# Altium schematic symbol library Opamps.SchLib: 5 symbols
Pins are listed as number, name and electrical type; pins without a type are passive.

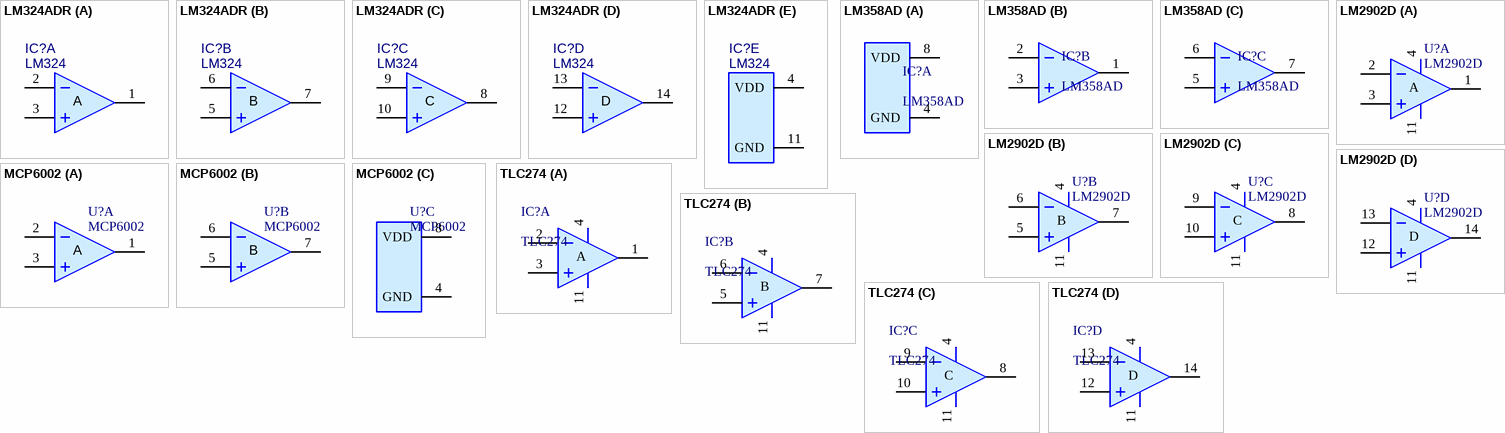
[diagram p0: symbols LM324ADR to TLC274]

## LM324ADR
designator IC?, comment LM324
Quadruple Operational Amplifier; Manufacturer 1: Texas Instruments; Manufacturer Part Number 1: LM324ADR; Supplier 1: Mouser; Supplier Part Number 1: 595-LM324ADR; ComponentLink1Description: Datasheet; Created: 2013-09-28; Last Updated: 2013-09-28
footprint SOIC14
part A pins: 1 OUT, 2 IN-, 3 IN+
part B pins: 5 IN+, 6 IN-, 7 OUT
part C pins: 8 OUT, 9 IN-, 10 IN+
part D pins: 12 IN+, 13 IN-, 14 OUT
part E pins: 4 VDD (power), 11 GND (power)
part A text: A
part B text: B
part C text: C
part D text: D

## LM358AD
designator IC?
Dual Opamp; Supplier 1: Mouser; Supplier Part Number 1: 511-LM358AD; ComponentLink1Description: Datasheet; Created: 2013-09-28; Last Updated: 2013-09-28
footprint SOIC8 (SOIC, 8-Leads, Body 5,0x4,0mm (max), Pitch 1,27mm, IPC Medium Density)
part A pins: 4 GND (power), 8 VDD (power)
part B pins: 1 OUT, 2 IN-, 3 IN+
part C pins: 5 IN+, 6 IN-, 7 OUT

## LM2902D
designator U?
Low-Power Quad Operational Amplifier; Manufacturer 1: ST; Supplier 1: Mouser; Supplier Part Number 1: 511-LM2902DT; ComponentLink1Description: Datasheet; ComponentLink1URL: http://www.st.com/stonline/products/literature/ds/2469/lm2902.pdf; Created: 2013-09-28; Last Updated: 2013-09-28
footprint SO14_N (SOIC, 14-Leads, Body 8.7x3.9mm, Pitch 1.27mm, IPC Medium Density)
pins on every part: 4 V+, 11 V-
part A pins: 1 OUT, 2 IN-, 3 IN+
part B pins: 5 IN+, 6 IN-, 7 OUT
part C pins: 8 OUT, 9 IN-, 10 IN+
part D pins: 12 IN+, 13 IN-, 14 OUT
part A text: A
part B text: B
part C text: C
part D text: D

## MCP6002
designator U?
Op Amp Dual 1.8V 1MHz; Manufacturer 1: ST; Manufacturer Part Number 1: MCP6002-I/SN; Supplier 1: Mouser; Supplier Part Number 1: 579-MCP6002-I/SN; ComponentLink1Description: Datasheet; ComponentLink1URL: http://www.st.com/stonline/products/literature/ds/2469/lm2902.pdf; Created: 2013-09-28; Last Updated: 2013-09-28; Package: SOIC8
footprint SOIC8 (SOIC, 8-Leads, Body 5,0x4,0mm (max), Pitch 1,27mm, IPC Medium Density)
part A pins: 1 OUT, 2 IN-, 3 IN+
part B pins: 5 IN+, 6 IN-, 7 OUT
part C pins: 4 GND (power), 8 VDD (power)
part A text: A
part B text: B

## TLC274
designator IC?
Low-Power Quad Operational Amplifier; Supplier 1: Mouser; Supplier Part Number 1: 595-TLC274IDR; ComponentLink1Description: Datasheet; Created: 2013-09-28; Last Updated: 2013-09-28
footprint SO14_N (SOIC, 14-Leads, Body 8.7x3.9mm, Pitch 1.27mm, IPC Medium Density)
part A pins: 1 OUT, 2 IN-, 3 IN+, 4 V+, 11 V-
part B pins: 4 V+, 5 IN+, 6 IN-, 7 OUT, 11 V-
part C pins: 4 V+, 8 OUT, 9 IN-, 10 IN+, 11 V-
part D pins: 4 V+, 11 V-, 12 IN+, 13 IN-, 14 OUT
part A text: A
part B text: B
part C text: C
part D text: D